# EAGLE library part ADP7102ACPZ-R7 (library Analog Devices)
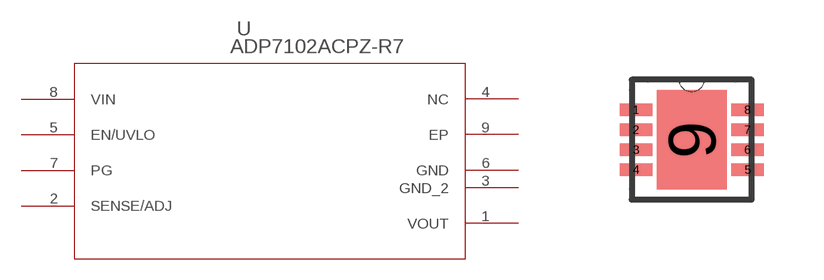
[diagram p13: symbol with the pads of CP_8_5; footprint CP_8_5]

Designator prefix U

## ADP7102ACPZ-R7  [CP_8_5]
1  VOUT  pas
2  SENSE/ADJ  pas
3  GND_2  pas
4  NC  pas
5  EN/UVLO  pas
6  GND  pas
7  PG  pas
8  VIN  pas
9  EP  pas

## Footprint CP_8_5 (pad centres in mm)
smd 0.813 x 0.305: 1 -1.397,0.75; 2 -1.397,0.25; 3 -1.397,-0.25; 4 -1.397,-0.75; 5 1.397,-0.75; 6 1.397,-0.25; 7 1.397,0.25; 8 1.397,0.75
smd 1.753 x 2.489: 9 0,0